# EAGLE library part WE-FLEX_ER14.5/6 (library Eagle_WE-FLEX (rev24a))
WE-FLEX Flexible Transformer for DC/DC Converter Characteristics Transformer with 6 identical windings 4 sizes with 5 different lengths of air gap each Isolation voltage 500 VDC Low leakage inductance Operating temperature: –40 ºC to +125 ºC By using different circuits more than 375 transformer solutions and about 125 choke solutions possible. Consequently, quick prototyping possibilities Applications All kind of switching regulators - Flyback converters - Forward converters - Push-pull converters - Step-up/step-down converters - SEPIC converter <https://www.we-online.com/components/media/o14787v209%20Family_WE-FLEX.jpg> Details see: www.we-online.com/en/components/products/WE-FLEX <www.we-online.com/catalog/WE-FLEX/?utm_source=eagle_model&utm_medium=description_link&utm_campaign=eisos_eagle> Updated by Ella 2024-09-27 2024 (C) Wurth Elektronik
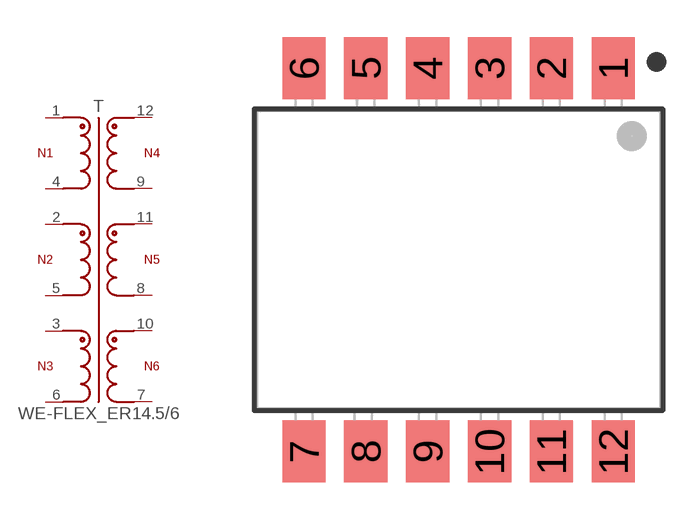
[diagram p2: symbol with the pads of WE-FLEX_ER14.5/6; footprint WE-FLEX_ER14.5/6]

Designator prefix T

## WE-FLEX_ER14.5/6_749196201 (DATASHEET-URL: https://www.we-online.com/redexpert/spec/749196201?ae; HEIGHT: 7.4mm; IRBASE: 0.95A; ISATBASE: 0.02A; LENGTH: 16.3mm; LSBASE: 1.2uH; N: 1:1:1:1:1:1; PART-NUMBER: 749196201; RDCBASE: 159mOhm; SIZE: ER14.5/6; TYPE: ungapped; VALUE: 140uH; VOLTAGE-USECONDBASE: 48.3uVs; VT: 500V (AC); WIDTH: 16.8mm), WE-FLEX_ER14.5/6_749196211 (DATASHEET-URL: https://www.we-online.com/redexpert/spec/749196211?ae; HEIGHT: 7.4mm; IRBASE: 0.95A; ISATBASE: 0.36A; LENGTH: 16.3mm; LSBASE: 1.2uH; N: 1:1:1:1:1:1; PART-NUMBER: 749196211; RDCBASE: 159mOhm; SIZE: ER14.5/6; TYPE: gapped; VALUE: 21.6uH; VOLTAGE-USECONDBASE: 48.3uVs; VT: 500V (AC); WIDTH: 16.8mm), WE-FLEX_ER14.5/6_749196221 (DATASHEET-URL: https://www.we-online.com/redexpert/spec/749196221?ae; HEIGHT: 7.4mm; IRBASE: 0.95A; ISATBASE: 0.84A; LENGTH: 16.3mm; LSBASE: 1.2uH; N: 1:1:1:1:1:1; PART-NUMBER: 749196221; RDCBASE: 159mOhm; SIZE: ER14.5/6; TYPE: gapped; VALUE: 11.6uH; VOLTAGE-USECONDBASE: 48.3uVs; VT: 500V (AC); WIDTH: 16.8mm), WE-FLEX_ER14.5/6_749196231 (DATASHEET-URL: https://www.we-online.com/redexpert/spec/749196231?ae; HEIGHT: 7.4mm; IRBASE: 0.95A; ISATBASE: 1.2A; LENGTH: 16.3mm; LSBASE: 1.2uH; N: 1:1:1:1:1:1; PART-NUMBER: 749196231; RDCBASE: 159mOhm; SIZE: ER14.5/6; TYPE: gapped; VALUE: 8.3uH; VOLTAGE-USECONDBASE: 48.3uVs; VT: 500V (AC); WIDTH: 16.8mm), WE-FLEX_ER14.5/6_749196241 (DATASHEET-URL: https://www.we-online.com/redexpert/spec/749196241?ae; HEIGHT: 7.4mm; IRBASE: 0.95A; ISATBASE: 1.55A; LENGTH: 16.3mm; LSBASE: 1.2uH; N: 1:1:1:1:1:1; PART-NUMBER: 749196241; RDCBASE: 159mOhm; SIZE: ER14.5/6; TYPE: gapped; VALUE: 6.6uH; VOLTAGE-USECONDBASE: 48.3uVs; VT: 500V (AC); WIDTH: 16.8mm)  [WE-FLEX_ER14.5/6]
1  1  pas
2  2  pas
3  3  pas
4  4  pas
5  5  pas
6  6  pas
7  7  pas
8  8  pas
9  9  pas
10  10  pas
11  11  pas
12  12  pas

## Footprint WE-FLEX_ER14.5/6 (pad centres in mm)
WE-FLEX Flexible Transformer for DC/DC Converter Size: ER14.5/6 SMT 12pins LXWXH=16.3X16.8X7.4mm
smd 1.75 x 2.5: 1 6.25,7.75; 2 3.75,7.75; 3 1.25,7.75; 4 -1.25,7.75; 5 -3.75,7.75; 6 -6.25,7.75; 7 -6.25,-7.75; 8 -3.75,-7.75; 9 -1.25,-7.75; 10 1.25,-7.75; 11 3.75,-7.75; 12 6.25,-7.75